# Altium footprint library PcbLib.PcbLib: 2 footprints
Each footprint in its own frame and in the unit in brackets; x right, y up, seen from the top. Pads: shape width x height; smd on the part's side, far side on the other; paste and mask are expansions set on the pad; w line width, h text height; cw(c..) or ccw(c..) is an arc to the next point about the centre after c.
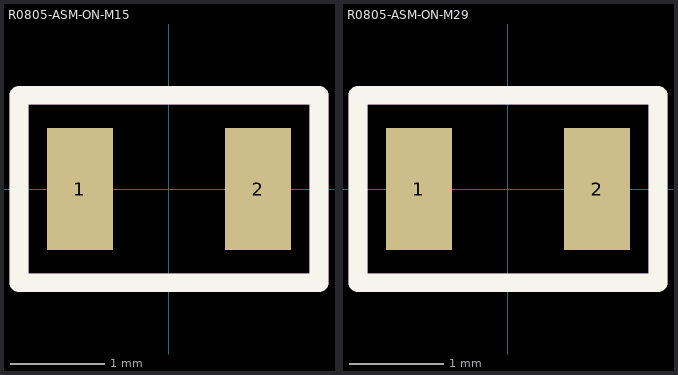
[diagram p0: the footprints below, top view; thin cyan lines are the x and y axes]

## R0805-ASM-ON-M15 [mm]
pads (2):
  rect 0.7x1.3 smd: 1(-0.95,0) 2(0.95,0)
Top Overlay:
  lines w0.2: -1.6,-1 -1.6,1 1.6,1 1.6,-1 -1.6,-1
M15 (Mech15):
  lines w0.2: -1.6,-1 -1.6,1 1.6,1 1.6,-1 -1.6,-1
  text "'.Designator' '.Layer_Name' '.Comment'" at -1.524,-2.794 h1.52

## R0805-ASM-ON-M29 [mm]
pads (2):
  rect 0.7x1.3 smd: 1(-0.95,0) 2(0.95,0)
Top Overlay:
  lines w0.2: -1.6,-1 -1.6,1 1.6,1 1.6,-1 -1.6,-1
M29:
  lines w0.2: -1.6,-1 1.6,-1 1.6,1 -1.6,1 -1.6,-1
  text "'.Designator' '.Layer_Name' '.Comment'" at -1.524,-2.794 h1.52